# Altium schematic symbol library TUSB211.SchLib: 1 symbol
Pins are listed as number, name and electrical type; pins without a type are passive.

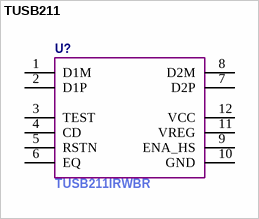
[diagram p0: symbol TUSB211]

## TUSB211
designator U?  Manufacturer Part Number: TUSB211IRWBR  (hidden comment: *)
Parameter 3: *; Parameter 2: *
pins: 1 D1M, 2 D1P, 3 TEST, 4 CD, 5 RSTN, 6 EQ, 7 D2P, 8 D2M, 9 ENA_HS, 10 GND, 11 VREG, 12 VCC